# EAGLE library part ATMEGA164 (library bytewerk-uc)
8-bit Microcontroller with 64K Bytes In-System Programmable Flash Source: http://www.atmel.com/dyn/resources/prod_documents/doc2593.pdf
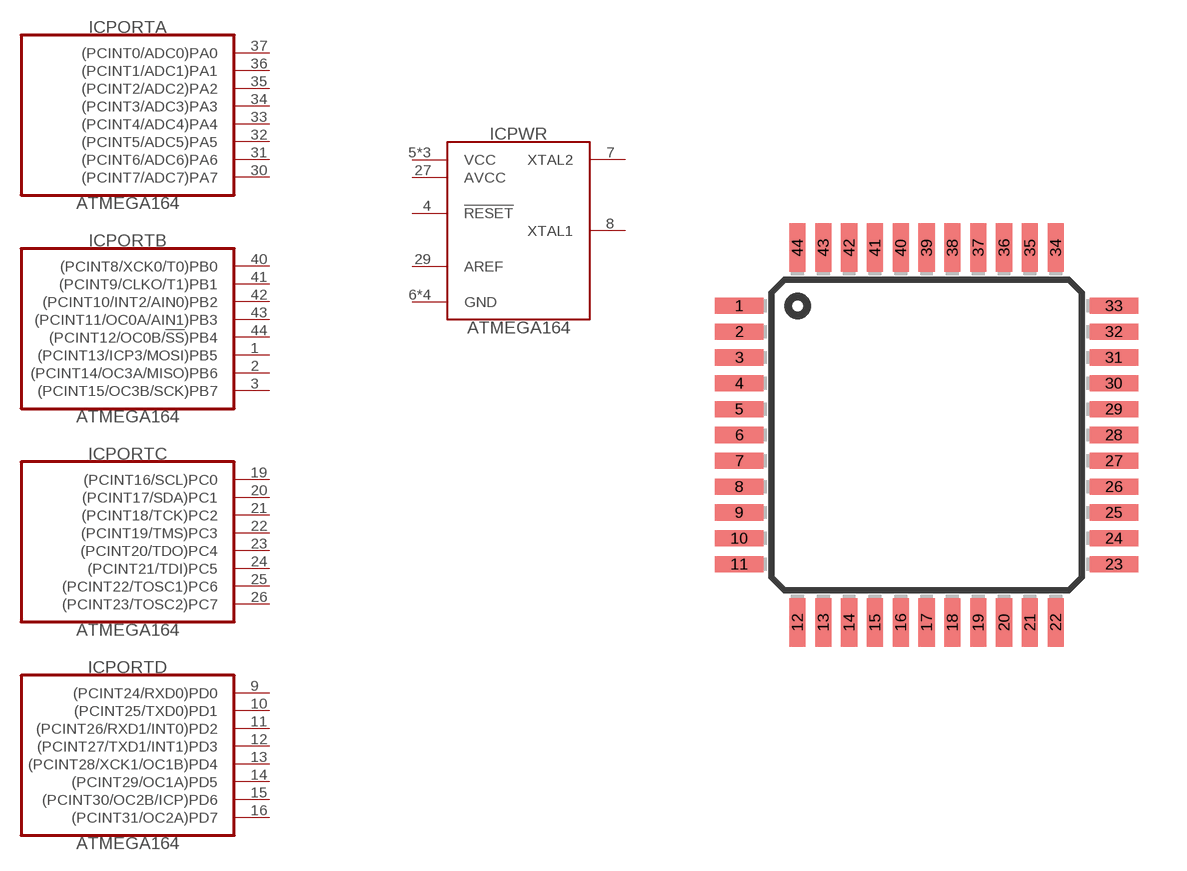
[diagram p10: symbol with the pads of TQFP44; footprint TQFP44]

Designator prefix IC; gates PWR=ATMEGA164-PWR PORTA=ATMEGA164-PORTA PORTB=ATMEGA164-PORTB PORTC=ATMEGA164-PORTC PORTD=ATMEGA164-PORTD

## ATMEGA164A (MPN: ATMEGA164A-AU; OC_MOUSER: 556-ATMEGA164A-AU)  [TQFP44]
1  PORTB:(PCINT13/ICP3/MOSI)PB5
2  PORTB:(PCINT14/OC3A/MISO)PB6
3  PORTB:(PCINT15/OC3B/SCK)PB7
4  PWR:!RESET!  in
5  PWR:VCC  pwr
6  PWR:GND  pwr
7  PWR:XTAL2
8  PWR:XTAL1
9  PORTD:(PCINT24/RXD0)PD0
10  PORTD:(PCINT25/TXD0)PD1
11  PORTD:(PCINT26/RXD1/INT0)PD2
12  PORTD:(PCINT27/TXD1/INT1)PD3
13  PORTD:(PCINT28/XCK1/OC1B)PD4
14  PORTD:(PCINT29/OC1A)PD5
15  PORTD:(PCINT30/OC2B/ICP)PD6
16  PORTD:(PCINT31/OC2A)PD7
17  PWR:VCC  pwr
18  PWR:GND  pwr
19  PORTC:(PCINT16/SCL)PC0  out
20  PORTC:(PCINT17/SDA)PC1  out
21  PORTC:(PCINT18/TCK)PC2  out
22  PORTC:(PCINT19/TMS)PC3  out
23  PORTC:(PCINT20/TDO)PC4  out
24  PORTC:(PCINT21/TDI)PC5  out
25  PORTC:(PCINT22/TOSC1)PC6  out
26  PORTC:(PCINT23/TOSC2)PC7  out
27  PWR:AVCC  pwr
28  PWR:GND  pwr
29  PWR:AREF  pas
30  PORTA:(PCINT7/ADC7)PA7
31  PORTA:(PCINT6/ADC6)PA6
32  PORTA:(PCINT5/ADC5)PA5
33  PORTA:(PCINT4/ADC4)PA4
34  PORTA:(PCINT3/ADC3)PA3
35  PORTA:(PCINT2/ADC2)PA2
36  PORTA:(PCINT1/ADC1)PA1
37  PORTA:(PCINT0/ADC0)PA0
38  PWR:VCC  pwr
39  PWR:GND  pwr
40  PORTB:(PCINT8/XCK0/T0)PB0
41  PORTB:(PCINT9/CLKO/T1)PB1
42  PORTB:(PCINT10/INT2/AIN0)PB2
43  PORTB:(PCINT11/OC0A/AIN1)PB3
44  PORTB:(PCINT12/OC0B/!SS!)PB4

## Footprint TQFP44 (pad centres in mm)
44-lead Thin Quad Flat Package
smd 1.5 x 0.5: 1 -5.8,4; 2 -5.8,3.2; 3 -5.8,2.4; 4 -5.8,1.6; 5 -5.8,0.8; 6 -5.8,0; 7 -5.8,-0.8; 8 -5.8,-1.6; 9 -5.8,-2.4; 10 -5.8,-3.2; 11 -5.8,-4; 23 5.8,-4; 24 5.8,-3.2; 25 5.8,-2.4; 26 5.8,-1.6; 27 5.8,-0.8; 28 5.8,0; 29 5.8,0.8; 30 5.8,1.6; 31 5.8,2.4; 32 5.8,3.2; 33 5.8,4
smd 0.5 x 1.5: 12 -4,-5.8; 13 -3.2,-5.8; 14 -2.4,-5.8; 15 -1.6,-5.8; 16 -0.8,-5.8; 17 0,-5.8; 18 0.8,-5.8; 19 1.6,-5.8; 20 2.4,-5.8; 21 3.2,-5.8; 22 4,-5.8; 34 4,5.8; 35 3.2,5.8; 36 2.4,5.8; 37 1.6,5.8; 38 0.8,5.8; 39 0,5.8; 40 -0.8,5.8; 41 -1.6,5.8; 42 -2.4,5.8; 43 -3.2,5.8; 44 -4,5.8